# Altium schematic symbol library SIM908.SchLib: 1 symbol
Pins are listed as number, name and electrical type; pins without a type are passive.

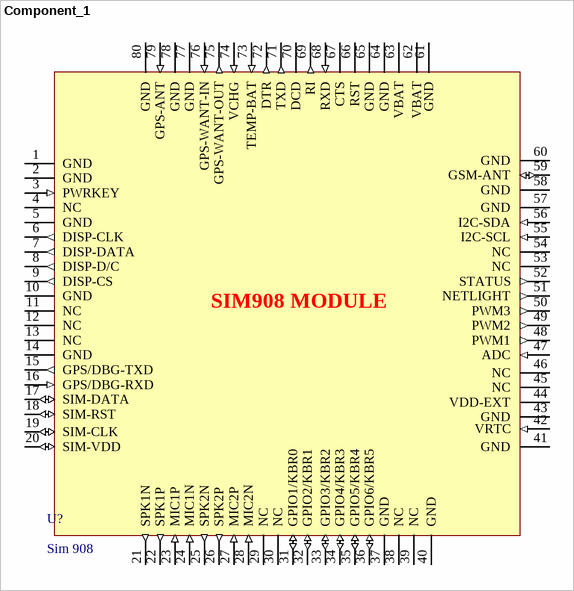
[diagram p0: symbol Component_1]

## Component_1
designator U?, comment Sim 908
SIMCOM SIM 908
footprint Sim908 (SimCom Sim908 GPS/GSM)
pins: 1 GND (power), 2 GND (power), 3 PWRKEY (in), 4 NC, 5 GND (power), 6 DISP-CLK (out), 7 DISP-DATA (out), 8 DISP-D/C (out), 9 DISP-CS (out), 10 GND (power), 11 NC, 12 NC, 13 NC, 14 GND (power), 15 GPS/DBG-TXD (out), 16 GPS/DBG-RXD (in), 17 SIM-DATA (io), 18 SIM-RST (io), 19 SIM-CLK (io), 20 SIM-VDD (io), 21 SPK1N (out), 22 SPK1P (out), 23 MIC1P (in), 24 MIC1N (in), 25 SPK2N (out), 26 SPK2P (out), 27 MIC2P (in), 28 MIC2N (in), 29 NC, 30 NC, 31 GPIO1/KBR0 (io), 32 GPIO2/KBR1 (io), 33 GPIO3/KBR2 (io), 34 GPIO4/KBR3 (io), 35 GPIO5/KBR4 (io), 36 GPIO6/KBR5 (io), 37 GND (power), 38 NC, 39 NC, 40 GND, 41 GND (power), 42 VRTC (in), 43 GND (power), 44 VDD-EXT (power), 45 NC, 46 NC, 47 ADC (in), 48 PWM1 (out), 49 PWM2 (out), 50 PWM3 (out), 51 NETLIGHT (out), 52 STATUS (out), 53 NC, 54 NC, 55 I2C-SCL (in), 56 I2C-SDA (in), 57 GND (power), 58 GND (power), 59 GSM-ANT (io), 60 GND (power), 61 GND (power), 62 VBAT (power), 63 VBAT (power), 64 GND (power), 65 GND (power), 66 RST (power), 67 CTS (power), 68 RXD (in), 69 RI (out), 70 DCD (hiz), 71 TXD (out), 72 DTR (out), 73 TEMP-BAT (in), 74 VCHG (in), 75 GPS-WANT-OUT (out), 76 GPS-WANT-IN (in), 77 GND (power), 78 GND (power), 79 GPS-ANT (in), 80 GND (power)
text: SIM908 MODULE